# Altium schematic symbol library 907 Power Supply.SchLib: 6 symbols
Pins are listed as number, name and electrical type; pins without a type are passive.

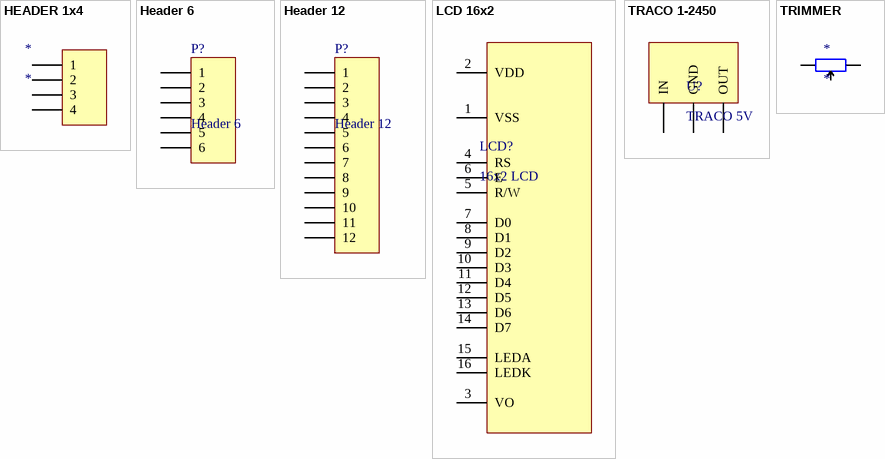
[diagram p0: symbols HEADER 1x4 to TRIMMER]

## HEADER 1x4
designator *
pins: 1, 2, 3, 4

## Header 6
designator P?
Header, 6-Pin; LatestRevisionDate: 17-Jul-2002; LatestRevisionNote: Re-released for DXP Platform.; Publisher: Altium Limited
footprint HDR1X3 (Connector; Header; 3 Position)
signal-integrity model Connector
pins: 1, 2, 3, 4, 5, 6

## Header 12
designator P?
Header, 12-Pin; LatestRevisionDate: 17-Jul-2002; LatestRevisionNote: Re-released for DXP Platform.; Publisher: Altium Limited
footprint HDR1X3 (Connector; Header; 3 Position)
signal-integrity model Connector
pins: 1, 2, 3, 4, 5, 6, 7, 8, 9, 10, 11, 12

## LCD 16x2
designator LCD?, comment 16x2 LCD
16x2 LCD MODULE (PARALLEL INTERFACE)
footprint LCD 16x2
pins: 1 VSS, 2 VDD, 3 VO, 4 RS, 5 R/W, 6 E, 7 D0, 8 D1, 9 D2, 10 D3, 11 D4, 12 D5, 13 D6, 14 D7, 15 LEDA, 16 LEDK

## TRACO 1-2450
designator U?, comment TRACO 5V
TRACO BUCK 1-2450 MODULE (5V)
footprint TRACO TSR 1-2450
pins: 1 IN, 2 GND, 3 OUT

## TRIMMER
designator *
footprint TRIMPOT
pins: 1, 3, 3